# EAGLE library part BARGRAF-10 (library oli)
Bargraf-Anzeige 10 Elemente Serie DC-10 Bauhöhe 8mm Reichelt: SRGB/RGB/GBG/YBG/RGBG 1000
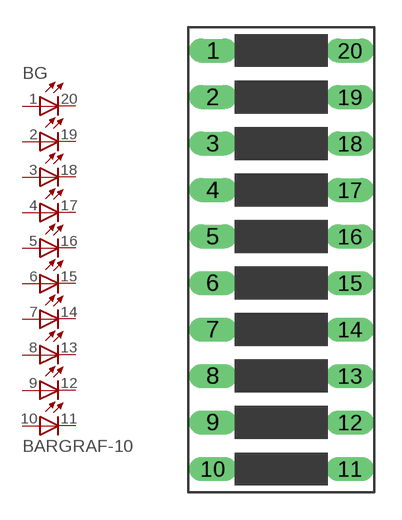
[diagram p1: symbol with the pads of BARGRAF-10; footprint BARGRAF-10]

Designator prefix BG

## BARGRAF-10  [BARGRAF-10]
1  1  pas
2  2  pas
3  3  pas
4  4  pas
5  5  pas
6  6  pas
7  7  pas
8  8  pas
9  9  pas
10  10  pas
11  11  pas
12  12  pas
13  13  pas
14  14  pas
15  15  pas
16  16  pas
17  17  pas
18  18  pas
19  19  pas
20  20  pas

## Footprint BARGRAF-10 (pad centres in mm)
Bargraf-Anzeige 10 Elemente Serie DC-10 Bauhöhe 8mm Reichelt: SRGB/RGB/GBG/YBG/RGBG 1000
drill 0.813 long: 1 -3.747,11.43; 2 -3.747,8.89; 3 -3.747,6.35; 4 -3.747,3.81; 5 -3.747,1.27; 6 -3.747,-1.27; 7 -3.747,-3.81; 8 -3.747,-6.35; 9 -3.747,-8.89; 10 -3.747,-11.43; 11 3.747,-11.43; 12 3.747,-8.89; 13 3.747,-6.35; 14 3.747,-3.81; 15 3.747,-1.27; 16 3.747,1.27; 17 3.747,3.81; 18 3.747,6.35; 19 3.747,8.89; 20 3.747,11.43